# Altium schematic symbol library FS10-1200.Schlib: 1 symbol
Pins are listed as number, name and electrical type; pins without a type are passive.

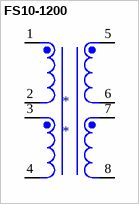
[diagram p0: symbol FS10-1200]

## FS10-1200
designator *
pins: 1 PRIMARY4, 2 PRIMARY3, 3 PRIMARY2, 4 PRIMARY1, 5 SECONDARY4, 6 SECONDARY3, 7 SECONDARY2, 8 SECONDARY1